# Altium footprint library Диоды-mm.PcbLib: 56 footprints (part 2 of 4)
Each footprint in its own frame and in the unit in brackets; x right, y up, seen from the top. Pads: shape width x height; smd on the part's side, far side on the other; paste and mask are expansions set on the pad; w line width, h text height; cw(c..) or ccw(c..) is an arc to the next point about the centre after c.
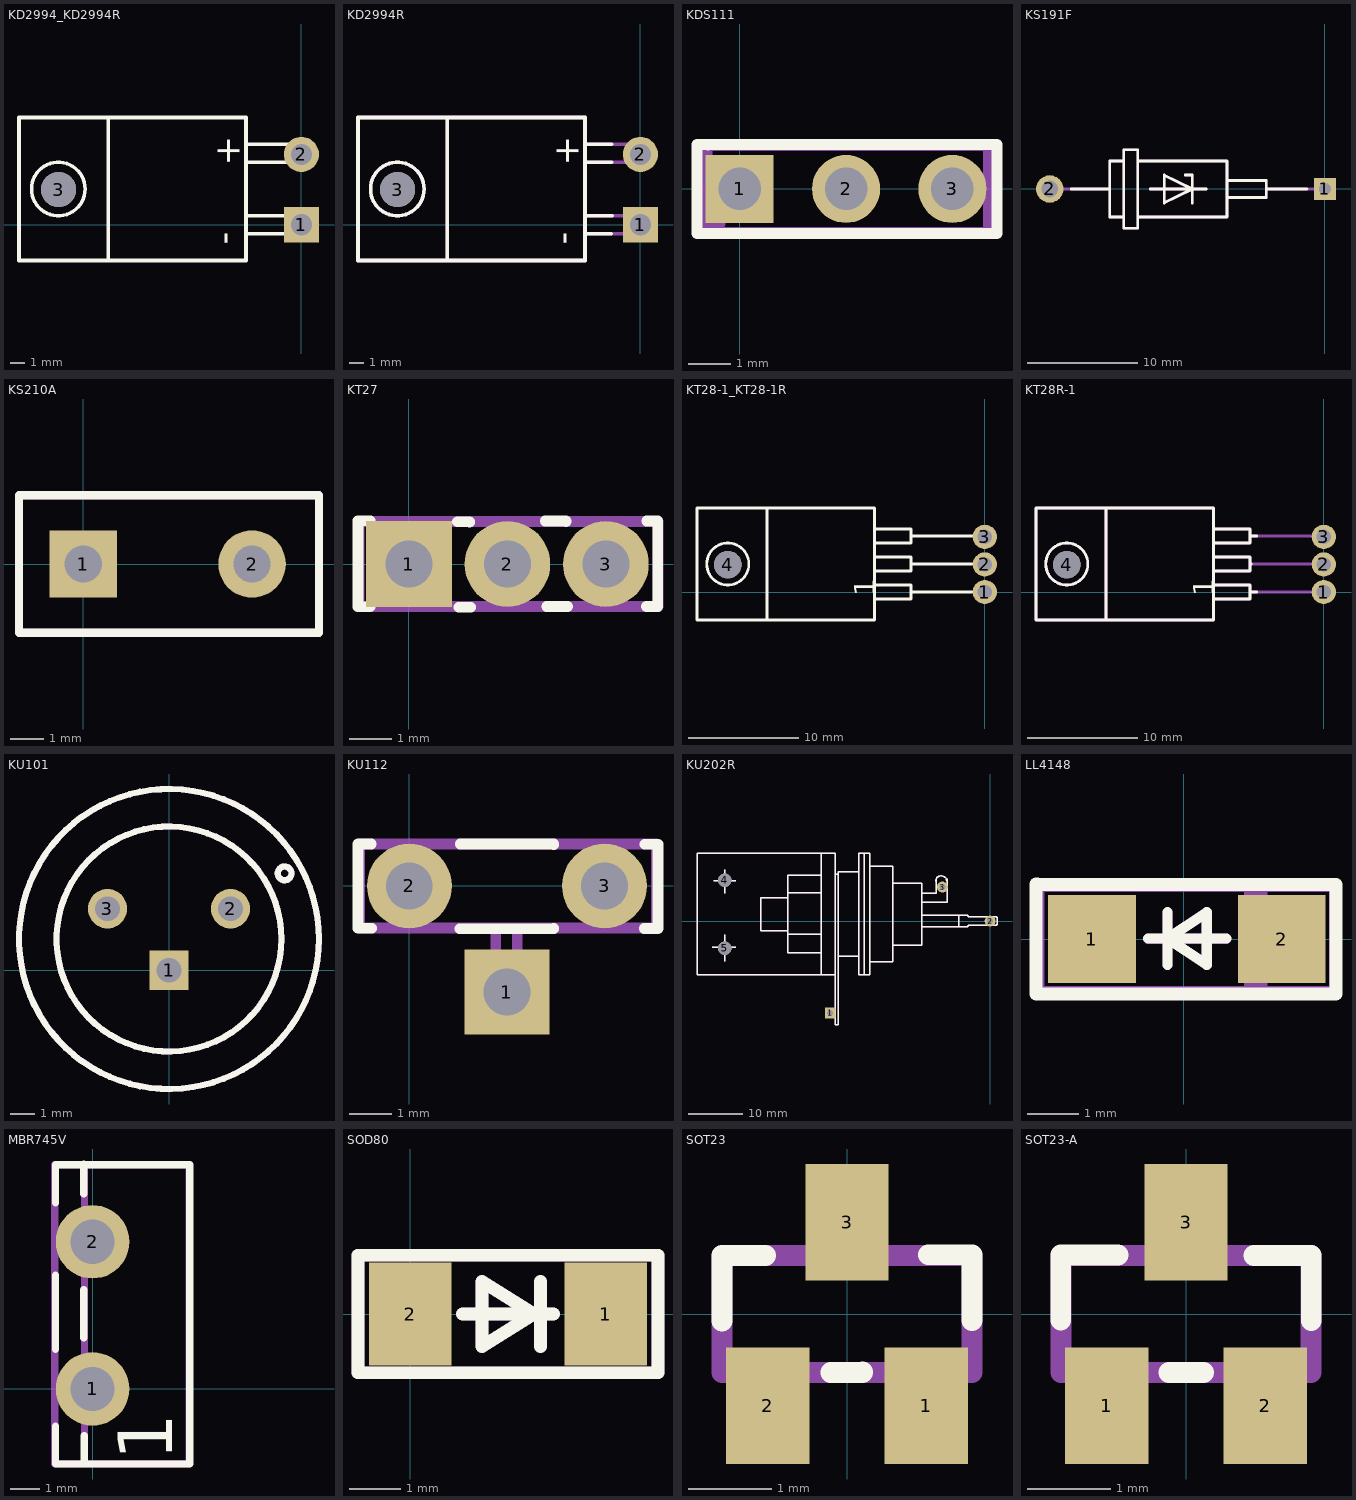
[diagram p1: the footprints below, top view; thin cyan lines are the x and y axes]

## KD2994_KD2994R [mm]
pads (3):
  rect 2.5x2.5 hole 1.5: 1(0,0)
  round 2.5 hole 1.5: 2(0,5)
  round 2.5 hole 2.5: 3(-17.25,2.5)
Top Overlay:
  circle w0.25: c-17.272,2.54 r1.905
  lines w0.25: -3.937,-0.635 -0.635,-0.635 -0.635,0.635 -3.937,0.635 ; -3.937,4.445 -0.635,4.445 -0.635,5.715 -3.937,5.715 ; -0.635,0 0,0 -0.508,0 ; -0.635,5.08 0,5.08 ; -3.937,-2.54 -20.066,-2.54 -20.066,7.62 -3.937,7.62 ; -3.937,-2.54 -13.716,-2.54 -13.716,7.62 -3.937,7.62 ; -3.937,-2.54 -3.937,7.62
  text "+" at -3.775,4.199 h3.17
  text "-" at -4.025,-1.405 h3.17

## KD2994R [mm]
pads (3):
  rect 2.5x2.5 hole 1.5: 1(0,0)
  round 2.5 hole 1.5: 2(0,5)
  round 2.5 hole 2.5: 3(-17.25,2.5)
Top Overlay:
  circle w0.25: c-17.272,2.54 r1.905
  lines w0.25: -3.937,-0.635 -2.071,-0.634 ; -3.937,0.635 -2.013,0.637 ; -3.937,4.445 -2.035,4.441 ; -3.937,5.715 -2.042,5.712 ; -3.937,-2.54 -20.066,-2.54 -20.066,7.62 -3.937,7.62 ; -3.937,-2.54 -13.716,-2.54 -13.716,7.62 -3.937,7.62 ; -3.937,-2.54 -3.937,7.62
  text "+" at -3.775,4.199 h3.17
  text "-" at -4.025,-1.405 h3.17
Mechanical 1:
  circle w0.25: c-17.272,2.54 r1.905
  lines w0.25: -3.937,-0.635 -0.635,-0.635 -0.635,0.635 -3.937,0.635 ; -3.937,4.445 -0.635,4.445 -0.635,5.715 -3.937,5.715 ; -0.635,0 0,0 -0.508,0 ; -0.635,5.08 0,5.08 ; -3.937,-2.54 -20.066,-2.54 -20.066,7.62 -3.937,7.62 ; -3.937,-2.54 -13.716,-2.54 -13.716,7.62 -3.937,7.62 ; -3.937,-2.54 -3.937,7.62
  text "+" at -3.775,4.199 h3.17
  text "-" at -4.025,-1.405 h3.17

## KDS111 [mm]
pads (3):
  rect 1.6x1.6 hole 1: 1(0,0)
  round 1.6 hole 1: 2(2.5,0) 3(5,0)
Top Overlay:
  lines w0.25: -0.778,1.043 6.049,1.043 6.049,-1.048 -1.004,-1.048 -1.004,1.043 -0.745,1.043 -0.745,1.023
  text "1" at 0.127,-0.762 h0.4
Mechanical 1:
  lines w0.25: -0.762,-1.016 5.842,-1.016 5.842,1.016 -0.762,1.016 -0.762,-1.016 ; -0.559,-0.813 -0.457,-0.813 -0.457,-0.711 -0.559,-0.711 -0.559,-0.813

## KS191F [mm]
pads (2):
  rect 2x2 hole 1.1: 1(0,0)
  round 2.5 hole 1.5: 2(-25,0)
Top Overlay:
  lines w0.25: -23.058,0.008 -19.558,0 ; -18.288,-2.54 -19.558,-2.54 -19.558,2.54 -18.288,2.54 ; -17.018,-2.54 -8.89,-2.54 -8.89,2.54 -17.018,2.54 ; -15.875,0 -10.795,0 ; -12.7,1.27 -12.065,1.27 -12.065,-1.27 ; -8.89,-0.762 -5.334,-0.762 -5.334,0.762 -8.89,0.762 ; -5.334,0 -1.642,0 ; -18.288,-3.556 -18.288,3.556 -17.018,3.556 -17.018,-3.556 -18.288,-3.556 ; -14.605,-1.27 -12.065,0 -14.605,1.27 -14.605,-1.27
Mechanical 1:
  lines w0.25: -25.004,0 -19.558,0 ; -18.288,-2.54 -19.558,-2.54 -19.558,2.54 -18.288,2.54 ; -17.018,-2.54 -8.89,-2.54 -8.89,2.54 -17.018,2.54 ; -15.875,0 -10.795,0 ; -12.7,1.27 -12.065,1.27 -12.065,-1.27 ; -8.89,-0.762 -5.334,-0.762 -5.334,0.762 -8.89,0.762 ; -5.334,0 0,0 ; -18.288,-3.556 -18.288,3.556 -17.018,3.556 -17.018,-3.556 -18.288,-3.556 ; -14.605,-1.27 -12.065,0 -14.605,1.27 -14.605,-1.27

## KS210A [mm]
pads (2):
  rect 2x2 hole 1.1: 1(0,0)
  round 2 hole 1.1: 2(5,0)
Top Overlay:
  lines w0.25: -1.905,-2.032 6.985,-2.032 6.985,2.032 -1.905,2.032 -1.905,-2.032
Mechanical 1:
  lines w0.25: -1.905,-2.032 6.985,-2.032 6.985,2.032 -1.905,2.032 -1.905,-2.032

## KT27 [mm]
pads (3):
  rect 2x2 hole 1.1: 1(0,0)
  round 2 hole 1.1: 2(2.3,0) 3(4.6,0)
Top Overlay:
  lines w0.25: -0.911,-1 -1.19,-1 -1.19,1 -1.19,1.014 -0.904,1.014 ; 1.132,0.985 1.412,0.985 1.412,0.977 ; 1.165,-1.011 1.445,-1.011 ; 3.183,1.007 3.668,1.007 3.668,0.992 ; 3.216,-0.989 3.701,-0.989 ; 5.55,-0.992 5.814,-0.992 5.814,0.926 5.814,1.007 5.557,1.007
Mechanical 1:
  lines w0.25: -1.168,-0.991 5.817,-0.991 5.817,0.991 -1.168,0.991 -1.168,-0.991
  lines w0.254: -1.168,-0.991 5.817,-0.991 5.817,0.991 -1.168,0.991 -1.168,-0.991

## KT28-1_KT28-1R [mm]
pads (4):
  round 2.2 hole 1.3: 1(0,0) 2(0,2.5) 3(0,5)
  round 2.5 hole 2.5 unplated: 4(-23.313,2.488)
Top Overlay:
  circle w0.25: c-23.317,2.54 r1.905
  lines w0.25: -19.812,-2.54 -10.033,-2.54 ; -19.812,7.62 -10.033,7.62 ; -10.008,-2.54 -10.008,7.62 ; -10.008,-0.635 -6.706,-0.635 -6.706,-0.127 -6.706,0.635 -10.008,0.635 ; -10.008,1.905 -6.706,1.905 -6.706,2.159 -6.706,2.921 -6.706,3.175 -10.008,3.175 ; -10.008,4.445 -6.706,4.445 -6.706,5.207 -6.706,5.715 -10.008,5.715 ; -6.706,0 -6.579,0 ; -6.706,2.54 -6.579,2.54 ; -6.68,5.055 -6.579,5.055 ; -6.604,0 -6.096,0 0,0 ; -6.604,2.54 -3.556,2.54 0,2.54 ; -6.604,5.08 -6.096,5.08 0,5.08 ; -26.111,-2.54 -26.111,7.62 -24.587,7.62 -23.317,7.62 -19.761,7.62 -19.761,-2.54 -23.317,-2.54 -24.587,-2.54 -26.111,-2.54
  text "1" at -9.342,-0.406 h3.17

## KT28R-1 [mm]
pads (4):
  round 2.2 hole 1.3: 1(0,0) 2(0,2.5) 3(0,5)
  round 2.5 hole 2.5 unplated: 4(-23.313,2.488)
Top Overlay:
  circle w0.25: c-23.317,2.54 r1.905
  lines w0.25: -19.812,-2.54 -10.033,-2.54 ; -19.812,7.62 -10.033,7.62 ; -10.008,-2.54 -10.008,7.62 ; -10.008,-0.635 -6.706,-0.635 -6.706,-0.127 -6.706,0.635 -10.008,0.635 ; -10.008,1.905 -6.706,1.905 -6.706,2.159 -6.706,2.921 -6.706,3.175 -10.008,3.175 ; -10.008,4.445 -6.706,4.445 -6.706,5.207 -6.706,5.715 -10.008,5.715 ; -6.706,0 -6.579,0 ; -6.706,2.54 -6.579,2.54 ; -6.68,5.055 -6.579,5.055 ; -6.604,0 -6.096,0 ; -6.604,5.08 -6.096,5.08 ; -26.111,-2.54 -26.111,7.62 -24.587,7.62 -23.317,7.62 -19.761,7.62 -19.761,-2.54 -23.317,-2.54 -24.587,-2.54 -26.111,-2.54
  text "1" at -9.342,-0.406 h3.17
Mechanical 1:
  circle w0.25: c-23.317,2.54 r1.905
  lines w0.25: -19.812,-2.54 -10.033,-2.54 ; -19.812,7.62 -10.033,7.62 ; -10.008,-2.54 -10.008,7.62 ; -10.008,-0.635 -6.706,-0.635 -6.706,-0.127 -6.706,0.635 -10.008,0.635 ; -10.008,1.905 -6.706,1.905 -6.706,2.159 -6.706,2.921 -6.706,3.175 -10.008,3.175 ; -10.008,4.445 -6.706,4.445 -6.706,5.207 -6.706,5.715 -10.008,5.715 ; -6.706,0 -6.579,0 ; -6.706,2.54 -6.579,2.54 ; -6.68,5.055 -6.579,5.055 ; -6.604,0 -6.096,0 0,0 ; -6.604,2.54 -3.556,2.54 0,2.54 ; -6.604,5.08 -6.096,5.08 0,5.08 ; -26.111,-2.54 -26.111,7.62 -24.587,7.62 -23.317,7.62 -19.761,7.62 -19.761,-2.54 -23.317,-2.54 -24.587,-2.54 -26.111,-2.54

## KU101 [mm]
pads (3):
  rect 1.6x1.6 hole 1: 1(0,0)
  round 1.6 hole 1: 2(2.5,2.5) 3(-2.5,2.5)
Top Overlay:
  circle w0.25: c0,1.27 r6.096
  circle w0.25: c0,1.27 r4.572
  circle w0.25: c4.699,3.937 r0.279
Mechanical 1:
  circle w0.25: c0,1.27 r6.096
  circle w0.25: c0,1.27 r4.572
  circle w0.25: c4.699,3.937 r0.279

## KU112 [mm]
pads (3):
  rect 2x2 hole 1.1: 1(2.3,-2.5)
  round 2 hole 1.1: 2(0,0) 3(4.6,0)
Top Overlay:
  lines w0.25: -0.896,0.99 -1.211,0.99 -1.211,0.971 -1.211,-0.999 -0.887,-0.999 ; 1.185,-1.008 3.405,-1.008 3.405,-0.999 ; 1.203,0.99 3.405,0.99 3.405,0.971 ; 5.537,-1.003 5.861,-1.003 5.861,0.967 ; 5.546,0.986 5.861,0.986
Mechanical 1:
  lines w0.25: 2.033,-0.991 2.033,-2.54 2.541,-2.54 2.541,-0.991 ; -1.168,-0.991 5.817,-0.991 5.817,0.991 -1.168,0.991 -1.168,-0.991

## KU202R [mm]
pads (5):
  rect 2x2 hole 1.1: 1(-29.375,-16.875)
  round 2 hole 1.1: 2(0,0) 3(-8.75,6.25)
  round 2.5 hole 2.5: 4(-48.75,7.5) 5(-48.75,-5)
Top Overlay:
  circle w0.25: c0.003,-0.03 r0.463
  lines w0.25: -51.054,-4.826 -46.736,-4.826 ; -50.8,7.366 -46.736,7.366 ; -48.768,-7.366 -48.768,-2.54 ; -48.768,5.08 -48.768,9.398 ; -37.211,-2.413 -31.115,-2.413 ; -37.211,4.191 -37.211,-1.778 ; -37.084,5.207 -31.115,5.207 ; -28.448,-9.906 -30.988,-9.906 ; -27.94,-6.477 -24.13,-6.477 -24.13,9.017 -27.94,9.017 -27.94,8.509 ; -22.098,-7.493 -17.907,-7.493 -17.907,10.033 -22.098,10.033 ; -17.907,-4.445 -12.573,-4.445 -12.573,6.985 -17.907,6.985 ; -12.573,-1.016 -5.715,-1.016 ; -12.573,1.016 -5.715,1.016 ; -12.573,3.429 -7.874,3.429 -7.874,7.747 ; -12.573,5.08 -9.906,5.08 -9.906,7.747 ; -10.006,7.289 cw(c-8.99,7.287) -7.974,7.287 ; -37.211,-1.778 -42.164,-1.778 -42.164,4.318 -37.211,4.318 -37.211,8.382 -30.988,8.382 ; -37.211,-1.778 -37.211,-5.842 -30.988,-5.842 ; -30.988,-9.906 -53.848,-9.906 -53.848,12.446 -51.308,12.446 -30.988,12.446 ; -30.988,-9.906 -30.988,-5.842 ; -30.988,-5.842 -30.988,8.382 ; -30.988,8.382 -30.988,12.446 ; -30.988,12.446 -28.448,12.446 -28.448,8.636 ; -28.448,8.636 -28.448,-19.05 -27.94,-19.05 -27.94,8.636 -28.448,8.636 ; -23.114,-9.906 -23.114,12.446 ; -23.114,-9.906 -23.114,12.446 ; -23.114,-9.906 -22.098,-9.906 -22.098,12.446 -23.114,12.446 ; -23.114,-9.906 -24.13,-9.906 -24.13,12.446 -23.114,12.446 ; -5.715,-1.016 -5.715,1.016 ; -5.715,-1.016 -4.191,-1.016 -3.937,-0.762 1.143,-0.762 1.27,-0.635 1.27,0.635 1.143,0.762 -3.937,0.762 -4.191,1.016 -5.715,1.016
Mechanical 1:
  circle w0.25: c0.003,-0.03 r0.463
  lines w0.25: -51.054,-4.826 -46.736,-4.826 ; -50.8,7.366 -46.736,7.366 ; -48.768,-7.366 -48.768,-2.54 ; -48.768,5.08 -48.768,9.398 ; -37.211,-2.413 -31.115,-2.413 ; -37.211,4.191 -37.211,-1.778 ; -37.084,5.207 -31.115,5.207 ; -28.448,-9.906 -30.988,-9.906 ; -27.94,-6.477 -24.13,-6.477 -24.13,9.017 -27.94,9.017 -27.94,8.509 ; -22.098,-7.493 -17.907,-7.493 -17.907,10.033 -22.098,10.033 ; -17.907,-4.445 -12.573,-4.445 -12.573,6.985 -17.907,6.985 ; -12.573,-1.016 -5.715,-1.016 ; -12.573,1.016 -5.715,1.016 ; -12.573,3.429 -7.874,3.429 -7.874,7.747 ; -12.573,5.08 -9.906,5.08 -9.906,7.747 ; -10.006,7.289 cw(c-8.99,7.287) -7.974,7.287 ; -37.211,-1.778 -42.164,-1.778 -42.164,4.318 -37.211,4.318 -37.211,8.382 -30.988,8.382 ; -37.211,-1.778 -37.211,-5.842 -30.988,-5.842 ; -30.988,-9.906 -53.848,-9.906 -53.848,12.446 -51.308,12.446 -30.988,12.446 ; -30.988,-9.906 -30.988,-5.842 ; -30.988,-5.842 -30.988,8.382 ; -30.988,8.382 -30.988,12.446 ; -30.988,12.446 -28.448,12.446 -28.448,8.636 ; -28.448,8.636 -28.448,-19.05 -27.94,-19.05 -27.94,8.636 -28.448,8.636 ; -23.114,-9.906 -23.114,12.446 ; -23.114,-9.906 -23.114,12.446 ; -23.114,-9.906 -22.098,-9.906 -22.098,12.446 -23.114,12.446 ; -23.114,-9.906 -24.13,-9.906 -24.13,12.446 -23.114,12.446 ; -5.715,-1.016 -5.715,1.016 ; -5.715,-1.016 -4.191,-1.016 -3.937,-0.762 1.143,-0.762 1.27,-0.635 1.27,0.635 1.143,0.762 -3.937,0.762 -4.191,1.016 -5.715,1.016

## LL4148 [mm]
pads (2):
  rect 1.7x1.7 smd: 1(-1.778,0) 2(1.905,0)
Top Overlay:
  lines w0.2: -0.692,0.01 0.832,0.01 ; -0.311,-0.498 -0.311,0.518 ; -0.311,0.01 0.451,-0.498 0.451,0.518 -0.311,0.01
  lines w0.25: -2.835,1.054 2.955,1.054 2.955,-0.102 2.955,-1.064 2.632,-1.064 -2.863,-1.064 -2.863,1.064 -2.835,1.064
Mechanical 1:
  lines w0.2: -0.692,0.007 0.832,0.007 ; -0.311,-0.501 -0.311,0.515 ; 1.27,-1.016 1.27,1.016 ; 1.397,-1.016 1.397,1.016 ; 1.524,-1.016 1.524,1.016 ; -2.794,-1.016 2.921,-1.016 2.921,1.016 -2.794,1.016 -2.794,-1.016 ; -0.311,0.007 0.451,-0.501 0.451,0.515 -0.311,0.007

## MBR745V [mm]
pads (2):
  round 2.5 hole 1.5: 1(0,0) 2(0,5)
Top Overlay:
  lines w0.25: -1.261,-1.26 -1.261,-2.554 -1.241,-2.554 3.308,-2.554 3.308,-2.378 3.308,7.623 -1.261,7.623 -1.261,6.329 ; -1.261,1.348 -1.261,3.858 ; -0.3,1.74 -0.3,3.368 ; -0.3,6.623 -0.3,7.643 ; -0.281,-2.544 -0.281,-1.593
  text "1" at 3.313,-2.438 h3.17
Mechanical 1:
  lines w0.25: -0.274,-2.54 -0.274,7.62 ; -1.29,-2.54 3.282,-2.54 3.282,7.62 -1.29,7.62 -1.29,-2.54
  text "1" at 3.438,-2.438 h3.17

## SOD80 [mm]
pads (2):
  rect 1.6x2 smd: 1(3.81,0) 2(0,0)
Top Overlay:
  lines w0.25: 1.016,0 2.794,0 ; 2.54,-0.635 2.54,0.635 ; -1.016,-1.143 4.826,-1.143 4.826,1.143 -1.016,1.143 -1.016,-1.143 ; 1.397,-0.635 2.413,0 1.397,0.635 1.397,-0.635
Mechanical 1:
  lines w0.25: 1.016,0 2.794,0 ; 2.54,-0.635 2.54,0.635 ; -1.016,-1.143 4.826,-1.143 4.826,1.143 -1.016,1.143 -1.016,-1.143 ; 1.397,-0.635 2.413,0 1.397,0.635 1.397,-0.635

## SOT23 [mm]
pads (3):
  rect 1x1.4 smd: 1(0.95,-1.1) 2(-0.95,-1.1) 3(0,1.1)
Top Overlay:
  lines w0.25: -1.501,-0.083 -1.498,-0.083 -1.498,0.689 -1.498,0.704 -0.977,0.704 ; -0.194,-0.704 0.186,-0.704 0.186,-0.696 ; 0.977,0.71 1.498,0.71 ; 1.498,-0.077 1.498,0.695
Mechanical 1:
  lines w0.25: -1.5,-0.7 1.5,-0.7 1.5,0.7 -1.5,0.7 -1.5,-0.7

## SOT23-A [mm]
pads (3):
  rect 1x1.4 smd: 1(-0.95,-1.1) 2(0.95,-1.1) 3(0,1.1)
Top Overlay:
  lines w0.25: -1.503,-0.074 -1.503,0.31 -1.503,0.708 -0.816,0.708 ; -0.205,-0.702 0.21,-0.702 ; 0.816,0.704 1.503,0.704 1.503,0.306 1.503,-0.078
Mechanical 1:
  lines w0.25: -1.5,-0.7 1.5,-0.7 1.5,0.7 -1.5,0.7 -1.5,-0.7